# Altium schematic symbol library Schlib1.SchLib: 35 symbols (part 2 of 2)
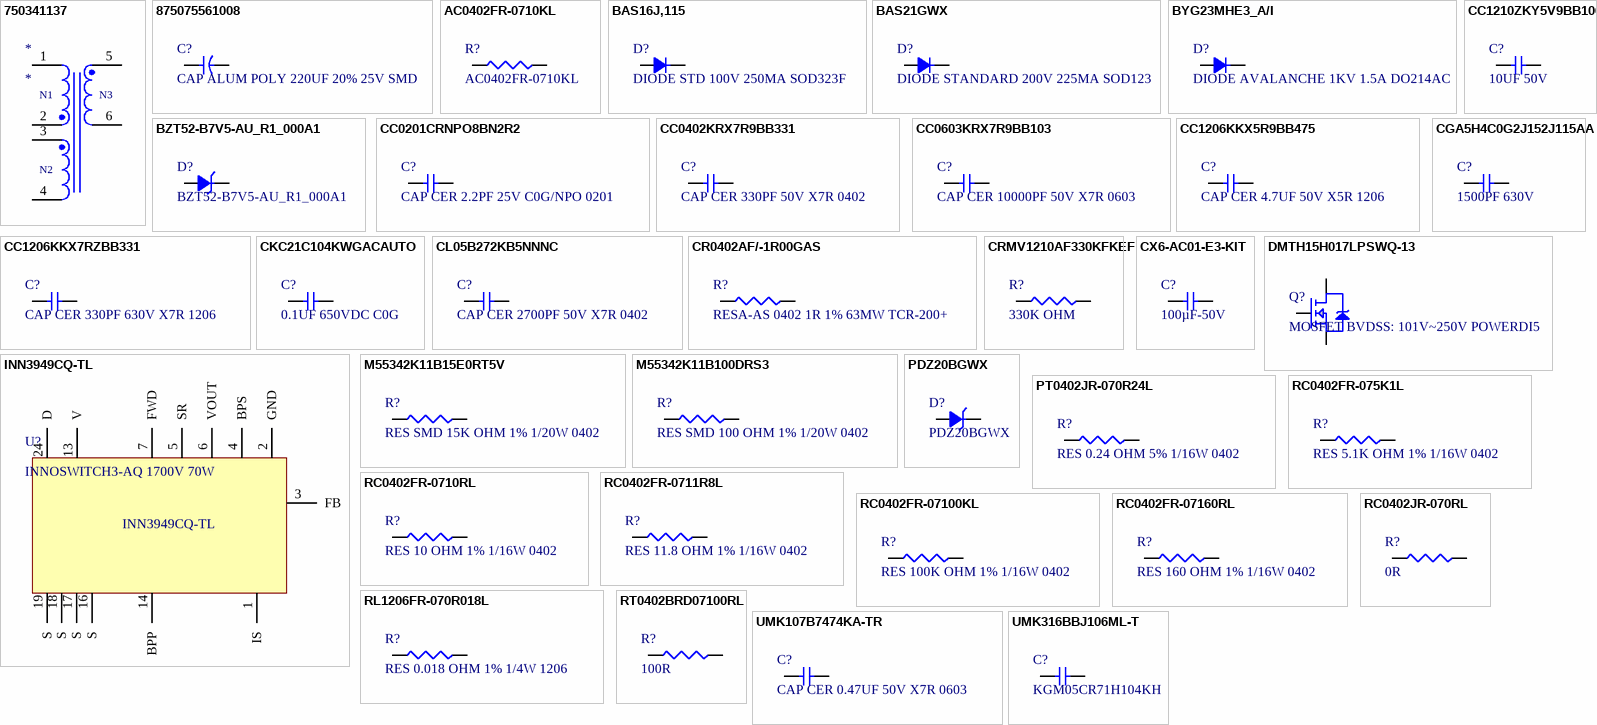
[diagram p1: symbols 750341137 to UMK316BBJ106ML-T]

## UMK107B7474KA-TR
designator C?, comment CAP CER 0.47UF 50V X7R 0603
0603 0.47 uF 50 V ±10% Tolerance X7R Multilayer Ceramic Capacitor; Manufacturer: Taiyo Yuden; Manufacturer Part Number: UMK107B7474KA-TR; Material: 4241ConductorMaterial; Value: 470nF; Supplier: Digikey; Supplier Part Number: 587-3170-1-ND; RoHS: Yes; Category: Ceramic Capacitors; Stock: 1133731; Pricing: 1=0.15, 10=0.085, 100=0.0518, 1000=0.03491 (USD); Mounting Technology: Surface Mount; Case/Package: 0603; Case Code (Metric): 1608; Case Code (Imperial): 0603; Min Operating Temperature: -55°C; Max Operating Temperature: 125°C; Tolerance: 10%; Packaging: Tape and Reel; Voltage Rating: 50V; Package Quantity: 1; Dielectric: X7R; Termination: SMD/SMT; Voltage: 50V; Voltage Rating (DC): 50V; Series: M; Construction: Flat; Length: 1.6mm; Width: 0.031inch; Height: 0.8mm; Thickness: 0.035inch; Depth: 0.8mm; Radiation Hardening: No; RoHS Compliant: Yes; Lead Free: 5697LeadFree; Halogen Free: 5694HalogenFree; ComponentLink1URL: https://datasheet.ciiva.com/11600/umk107b7474ka-tr-ss-11600367.pdf?src-supplier=Avnet; ComponentLink1Description: https://datasheet.ciiva.com/11600/umk107b7474ka-tr-ss-11600367.pdf?src-supplier=Avnet; ComponentLink2URL: https://datasheet.ciiva.com/15922/257umk107b7474ka-tr-15922607.pdf?src-supplier=Onlinecomponents.com; ComponentLink2Description: https://datasheet.ciiva.com/15922/257umk107b7474ka-tr-15922607.pdf?src-supplier=Onlinecomponents.com; ComponentLink3URL: https://datasheet.ciiva.com/30063/972umk107b7474ka-tr-30063804.pdf?src-supplier=Onlinecomponents.com; ComponentLink3Description: https://datasheet.ciiva.com/30063/972umk107b7474ka-tr-30063804.pdf?src-supplier=Onlinecomponents.com; ComponentLink4URL: https://datasheet.ciiva.com/6274/mlcc-all-e-6274710.pdf?src-supplier=Digikey; ComponentLink4Description: https://datasheet.ciiva.com/6274/mlcc-all-e-6274710.pdf?src-supplier=Digikey; ComponentLink5URL: https://datasheet.ciiva.com/6274/mlcc-all-e-6274712.pdf?src-supplier=Digikey; ComponentLink5Description: https://datasheet.ciiva.com/6274/mlcc-all-e-6274712.pdf?src-supplier=Digikey; ComponentLink6URL: https://datasheet.ciiva.com/6274/mlcc-all-e-6274713.pdf?src-supplier=Digikey; ComponentLink6Description: https://datasheet.ciiva.com/6274/mlcc-all-e-6274713.pdf?src-supplier=Digikey; ComponentLink7URL: https://datasheet.ciiva.com/5412/mlcc01-e-5412119.pdf?src-supplier=Mouser; ComponentLink7Description: https://datasheet.ciiva.com/5412/mlcc01-e-5412119.pdf?src-supplier=Mouser
pins: 1, 2  2 

## UMK316BBJ106ML-T
designator C?, comment KGM05CR71H104KH
0.1 µF ±10% 50V Ceramic Capacitor X7R 0402 (1005 Metric); Manufacturer: Taiyo Yuden; Manufacturer Part Number: UMK316BBJ106ML-T; Description: Multilayer Ceramic Capacitors (High dielectric type), 50V, 10 uF, ± 20 %, 1206, X5R, RoHS; Tolerance: 20%; Value: 10uF; Dielectric: X5R; Supplier: Digikey; Supplier Part Number: 587-3248-1-ND; RoHS: Yes; Category: Ceramic Capacitors; Stock: 618164; Pricing: 1=0.36, 10=0.213, 100=0.1392, 1000=0.10106 (USD); Mounting Technology: Surface Mount; Case/Package: 1206; Case Code (Imperial): 1206; Case Code (Metric): 3216; Material: Ceramic; Min Operating Temperature: -55°C; Max Operating Temperature: 85°C; Packaging: Tape and Reel; Voltage Rating: 50V; Termination: SMD/SMT; Voltage Rating (DC): 50V; Series: M; Construction: Flat; Length: 3.2mm; Height: 1.6mm; RoHS Compliant: Yes; Halogen Free: 5694HalogenFree; ComponentLink1URL: https://datasheet.ciiva.com/6278/umk316bbj106ml-t-ss-6278595.pdf?src-supplier=Digikey; ComponentLink1Description: https://datasheet.ciiva.com/6278/umk316bbj106ml-t-ss-6278595.pdf?src-supplier=Digikey; ComponentLink2URL: https://datasheet.ciiva.com/15922/6umk316bbj106ml-t-15922684.pdf?src-supplier=Onlinecomponents.com; ComponentLink2Description: https://datasheet.ciiva.com/15922/6umk316bbj106ml-t-15922684.pdf?src-supplier=Onlinecomponents.com; ComponentLink3URL: https://datasheet.ciiva.com/30198/40umk316bbj106ml-t-30198356.pdf?src-supplier=Onlinecomponents.com; ComponentLink3Description: https://datasheet.ciiva.com/30198/40umk316bbj106ml-t-30198356.pdf?src-supplier=Onlinecomponents.com
footprint CAPC3216X190N
pins: 1, 2  2 